# EAGLE library part DF11CZ-20DS-2V (library h8-conector)
Hirose Connector: DF11CZ-20DS-2V Right Angle Pin Header, can be used with • DF11-20DP-2DSA, • DF11-20DP-2DS, • DF11-20DP-2V, • DF11-20DEP-2C • DF11-20DEP-2A Homepage : https://www.hirose.com/product/en/products/DF11/ Datasheet: https://www.hirose.com/product/en/download_file/key_name/DF11/category/Catalog/doc_file_id/31688/?file_category_id=4&item_id=37&is_series=1 Created by Hans Achterbahn (https://github.com/HansAchterbahn)
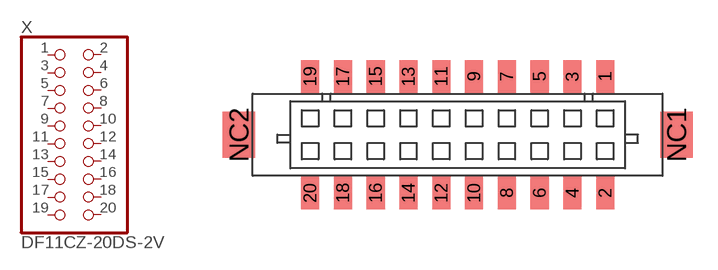
[diagram p4: symbol with the pads of DF11CZ-20DS-2V; footprint DF11CZ-20DS-2V]

Designator prefix X

## DF11CZ-20DS-2V (MF: Hirose; MFN: DF11CZ-20DS-2V; MOUSER: 798-DF11CZ-20DS-2V22; RS-ONLINE: 685-4705)  [DF11CZ-20DS-2V]
1  1  pas
2  2  pas
3  3  pas
4  4  pas
5  5  pas
6  6  pas
7  7  pas
8  8  pas
9  9  pas
10  10  pas
11  11  pas
12  12  pas
13  13  pas
14  14  pas
15  15  pas
16  16  pas
17  17  pas
18  18  pas
19  19  pas
20  20  pas

## Footprint DF11CZ-20DS-2V (pad centres in mm)
Hirose Connector: DF11CZ-20DS-2V Right Angle Pin Header, can be used with • DF11-20DP-2DSA, • DF11-20DP-2DS, • DF11-20DP-2V, • DF11-20DEP-2C • DF11-20DEP-2A Homepage : https://www.hirose.com/product/en/products/DF11/ Datasheet: https://www.hirose.com/product/en/download_file/key_name/DF11/category/Catalog/doc_file_id/31688/?file_category_id=4&item_id=37&is_series=1 Created by Hans Achterbahn (https://github.com/HansAchterbahn)
smd 1.1 x 2: 1 20,6.05; 2 20,-1.05; 3 18,6.05; 4 18,-1.05; 5 16,6.05; 6 16,-1.05; 7 14,6.05; 8 14,-1.05; 9 12,6.05; 10 12,-1.05; 11 10,6.05; 12 10,-1.05; 13 8,6.05; 14 8,-1.05; 15 6,6.05; 16 6,-1.05; 17 4,6.05; 18 4,-1.05; 19 2,6.05; 20 2,-1.05
smd 2 x 2.8: NC1 24.35,2.5; NC2 -2.35,2.5